# Altium schematic symbol library SCH-Components.SchLib: 3 symbols
Pins are listed as number, name and electrical type; pins without a type are passive.

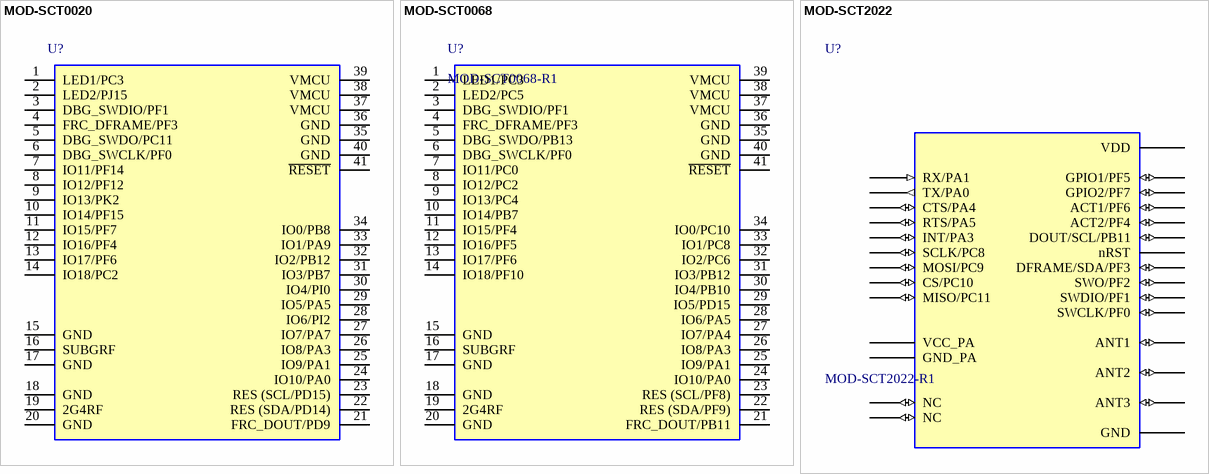
[diagram p0: symbols MOD-SCT0020 to MOD-SCT2022]

## MOD-SCT0020
designator U?, comment MOD-SCT0020-R1  (value not drawn)
MODULE DUAL BAND 920M/2.4GHz 100mW; Manufacturer: Nouvenn; Manufacturer Part Number: MOD-SCT0020-R1
footprint MOD-SCT0020 (14mm x 20mm)
pins: 1 LED1/PC3, 2 LED2/PJ15, 3 DBG_SWDIO/PF1, 4 FRC_DFRAME/PF3, 5 DBG_SWDO/PC11, 6 DBG_SWCLK/PF0, 7 IO11/PF14, 8 IO12/PF12, 9 IO13/PK2, 10 IO14/PF15, 11 IO15/PF7, 12 IO16/PF4, 13 IO17/PF6, 14 IO18/PC2, 15 GND, 16 SUBGRF, 17 GND, 18 GND, 19 2G4RF, 20 GND, 21 FRC_DOUT/PD9, 22 RES (SDA/PD14), 23 RES (SCL/PD15), 24 IO10/PA0, 25 IO9/PA1, 26 IO8/PA3, 27 IO7/PA7, 28 IO6/PI2, 29 IO5/PA5, 30 IO4/PI0, 31 IO3/PB7, 32 IO2/PB12, 33 IO1/PA9, 34 IO0/PB8, 35 GND, 36 GND, 37 VMCU, 38 VMCU, 39 VMCU, 40 GND, 41 ~{RESET}

## MOD-SCT0068
designator U?, comment MOD-SCT0068-R1
MODULE DUAL BAND 920M/2.4GHz 100mW; Manufacturer: Nouvenn; Manufacturer Part Number: MOD-SCT0068-R1
footprint MOD-SCT0068 (14mm x 20mm)
pins: 1 LED1/PC3, 2 LED2/PC5, 3 DBG_SWDIO/PF1, 4 FRC_DFRAME/PF3, 5 DBG_SWDO/PB13, 6 DBG_SWCLK/PF0, 7 IO11/PC0, 8 IO12/PC2, 9 IO13/PC4, 10 IO14/PB7, 11 IO15/PF4, 12 IO16/PF5, 13 IO17/PF6, 14 IO18/PF10, 15 GND, 16 SUBGRF, 17 GND, 18 GND, 19 2G4RF, 20 GND, 21 FRC_DOUT/PB11, 22 RES (SDA/PF9), 23 RES (SCL/PF8), 24 IO10/PA0, 25 IO9/PA1, 26 IO8/PA3, 27 IO7/PA4, 28 IO6/PA5, 29 IO5/PD15, 30 IO4/PB10, 31 IO3/PB12, 32 IO2/PC6, 33 IO1/PC8, 34 IO0/PC10, 35 GND, 36 GND, 37 VMCU, 38 VMCU, 39 VMCU, 40 GND, 41 ~{RESET}

## MOD-SCT2022
designator U?, comment MOD-SCT2022-R1
MODULE DUAL BAND 920M/2.4GHz 1W; Manufacturer: Nouvenn; Manufacturer Part Number: MOD-SCT2022-R1
footprint MOD-SCT2022 (53.34mm x 30.48mm)
pins: 1 GND (power), 2 GND (power), 3 GND (power), 4 RX/PA1 (in), 5 TX/PA0 (out), 6 CTS/PA4 (io), 7 RTS/PA5 (io), 8 INT/PA3 (io), 9 SCLK/PC8 (io), 10 MOSI/PC9 (io), 11 CS/PC10 (io), 12 MISO/PC11 (io), 14 GND (power), 15 GND (power), 16 VDD (power), 17 VDD (power), 18 VDD (power), 19 VDD (power), 20 VDD (power), 21 GND (power), 22 GND (power), 24 SWCLK/PF0 (io), 25 SWDIO/PF1 (io), 26 SWO/PF2 (io), 27 DFRAME/SDA/PF3 (io), 28 nRST, 29 DOUT/SCL/PB11 (io), 30 ACT2/PF4 (io), 31 ACT1/PF6 (io), 32 GPIO2/PF7 (io), 33 GPIO1/PF5 (io), 34 GND (power), 35 GND (power), 37 GND (power), 38 ANT3 (io), 39 GND (power), 40 GND (power), 41 ANT2 (io), 42 GND (power), 43 GND (power), 44 ANT1 (io), 45 GND (power), D+ NC (io), D- NC (io), GND_PA (power), VCC_PA (power)